# Altium schematic symbol library P6SMB16CA.SchLib: 1 symbol
Pins are listed as number, name and electrical type; pins without a type are passive.

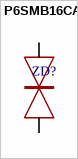
[diagram p0: symbol P6SMB16CA]

## P6SMB16CA
designator ZD?  (value not drawn)
footprint DO-214AA
pins: 1 A, 2 A